# Altium footprint library Connector_PinStamp_1.27mm.PcbLib: 5 footprints
Each footprint in its own frame and in the unit in brackets; x right, y up, seen from the top. Pads: shape width x height; smd on the part's side, far side on the other; paste and mask are expansions set on the pad; w line width, h text height; cw(c..) or ccw(c..) is an arc to the next point about the centre after c.
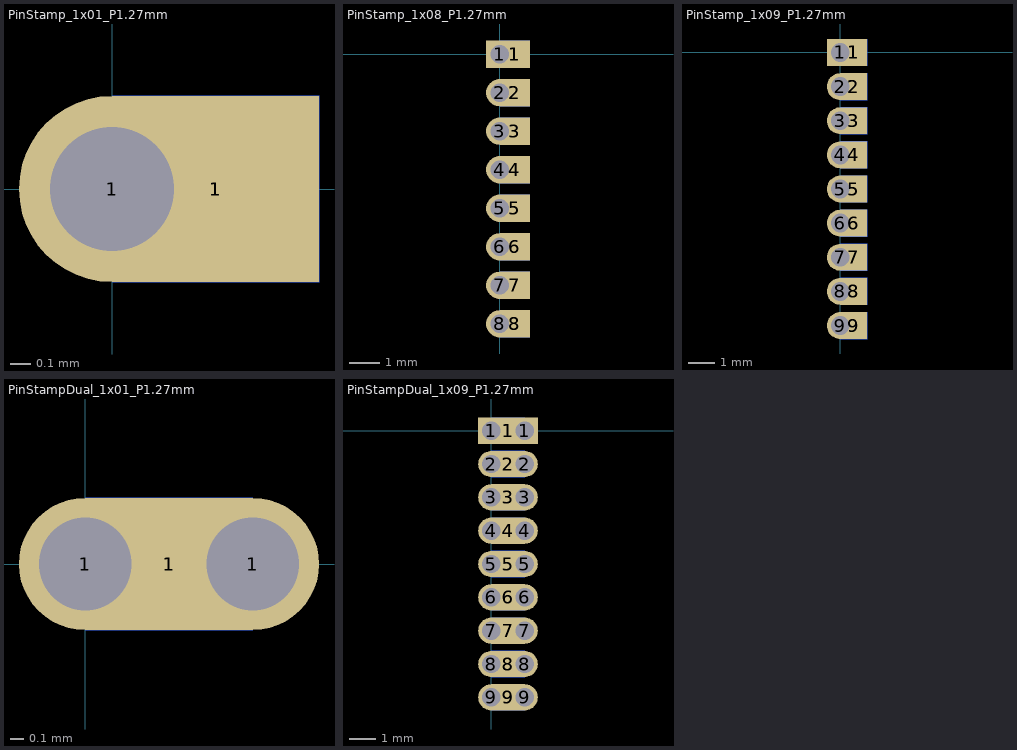
[diagram p0: the footprints below, top view; thin cyan lines are the x and y axes]

## PinStamp_1x01_P1.27mm [mm]
pads (3):
  round 0.9 hole 0.6: 1(0,0)
  rect 1x0.9 smd: 1(0.5,0)
  rect 1x0.9 smd far side: 1(0.5,0)

## PinStamp_1x08_P1.27mm [mm]
pads (24):
  rect 0.9x0.9 hole 0.6: 1(0,0)
  rect 1x0.9 smd: 1(0.5,0) 2(0.5,-1.27) 3(0.5,-2.54) 4(0.5,-3.81) 5(0.5,-5.08) 6(0.5,-6.35) 7(0.5,-7.62) 8(0.5,-8.89)
  rect 1x0.9 smd far side: 1(0.5,0) 2(0.5,-1.27) 3(0.5,-2.54) 4(0.5,-3.81) 5(0.5,-5.08) 6(0.5,-6.35) 7(0.5,-7.62) 8(0.5,-8.89)
  round 0.9 hole 0.6: 2(0,-1.27) 3(0,-2.54) 4(0,-3.81) 5(0,-5.08) 6(0,-6.35) 7(0,-7.62) 8(0,-8.89)

## PinStamp_1x09_P1.27mm [mm]
pads (27):
  rect 1x1 hole 0.7: 1(0,0)
  rect 1x1 smd: 1(0.5,0) 2(0.5,-1.27) 3(0.5,-2.54) 4(0.5,-3.81) 5(0.5,-5.08) 6(0.5,-6.35) 7(0.5,-7.62) 8(0.5,-8.89) 9(0.5,-10.16)
  rect 1x1 smd far side: 1(0.5,0) 2(0.5,-1.27) 3(0.5,-2.54) 4(0.5,-3.81) 5(0.5,-5.08) 6(0.5,-6.35) 7(0.5,-7.62) 8(0.5,-8.89) 9(0.5,-10.16)
  round 1 hole 0.7: 2(0,-1.27) 3(0,-2.54) 4(0,-3.81) 5(0,-5.08) 6(0,-6.35) 7(0,-7.62) 8(0,-8.89) 9(0,-10.16)

## PinStampDual_1x01_P1.27mm [mm]
pads (4):
  round 1 hole 0.7: 1(0,0) 1(1.27,0)
  rect 1.27x1 smd: 1(0.635,0)
  rect 1.27x1 smd far side: 1(0.635,0)

## PinStampDual_1x09_P1.27mm [mm]
pads (36):
  rect 1x1 hole 0.7: 1(0,0) 1(1.27,0)
  rect 1.27x1 smd: 1(0.635,0) 2(0.635,-1.27) 3(0.635,-2.54) 4(0.635,-3.81) 5(0.635,-5.08) 6(0.635,-6.35) 7(0.635,-7.62) 8(0.635,-8.89) 9(0.635,-10.16)
  rect 1.27x1 smd far side: 1(0.635,0) 2(0.635,-1.27) 3(0.635,-2.54) 4(0.635,-3.81) 5(0.635,-5.08) 6(0.635,-6.35) 7(0.635,-7.62) 8(0.635,-8.89) 9(0.635,-10.16)
  round 1 hole 0.7: 2(0,-1.27) 2(1.27,-1.27) 3(0,-2.54) 3(1.27,-2.54) 4(0,-3.81) 4(1.27,-3.81) 5(0,-5.08) 5(1.27,-5.08) 6(0,-6.35) 6(1.27,-6.35) 7(0,-7.62) 7(1.27,-7.62) 8(0,-8.89) 8(1.27,-8.89) 9(0,-10.16) 9(1.27,-10.16)